# Altium integrated library MCP9600-I_MX.IntLib: 1 symbol
Pins are listed as number, name and electrical type; pins without a type are passive.

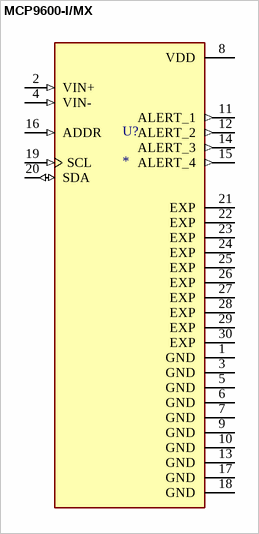
[diagram p0: symbol MCP9600-I/MX]

## MCP9600-I/MX
designator U?
MCP9600 Series Thermocouple Electromotive Force to Â±1.5Â°C Converter - VQFN-2; MP: MCP9600-I/MX; Package: None; Price: None; Value: *; Availability: Unavailable
footprint QFN65P500X500X100-21N
pins: 1 GND (power), 2 VIN+ (in), 3 GND (power), 4 VIN- (in), 5 GND (power), 6 GND (power), 7 GND (power), 8 VDD (power), 9 GND (power), 10 GND (power), 11 ALERT_1 (out), 12 ALERT_2 (out), 13 GND (power), 14 ALERT_3 (out), 15 ALERT_4 (out), 16 ADDR (in), 17 GND (power), 18 GND (power), 19 SCL (in), 20 SDA (io), 21 EXP (power), 22 EXP (power), 23 EXP (power), 24 EXP (power), 25 EXP (power), 26 EXP (power), 27 EXP (power), 28 EXP (power), 29 EXP (power), 30 EXP (power)